# Altium footprint library CONN_TBLOCK_7P5.PcbLib: 27 footprints (part 1 of 2)
Each footprint in its own frame and in the unit in brackets; x right, y up, seen from the top. Pads: shape width x height; smd on the part's side, far side on the other; paste and mask are expansions set on the pad; w line width, h text height; cw(c..) or ccw(c..) is an arc to the next point about the centre after c.
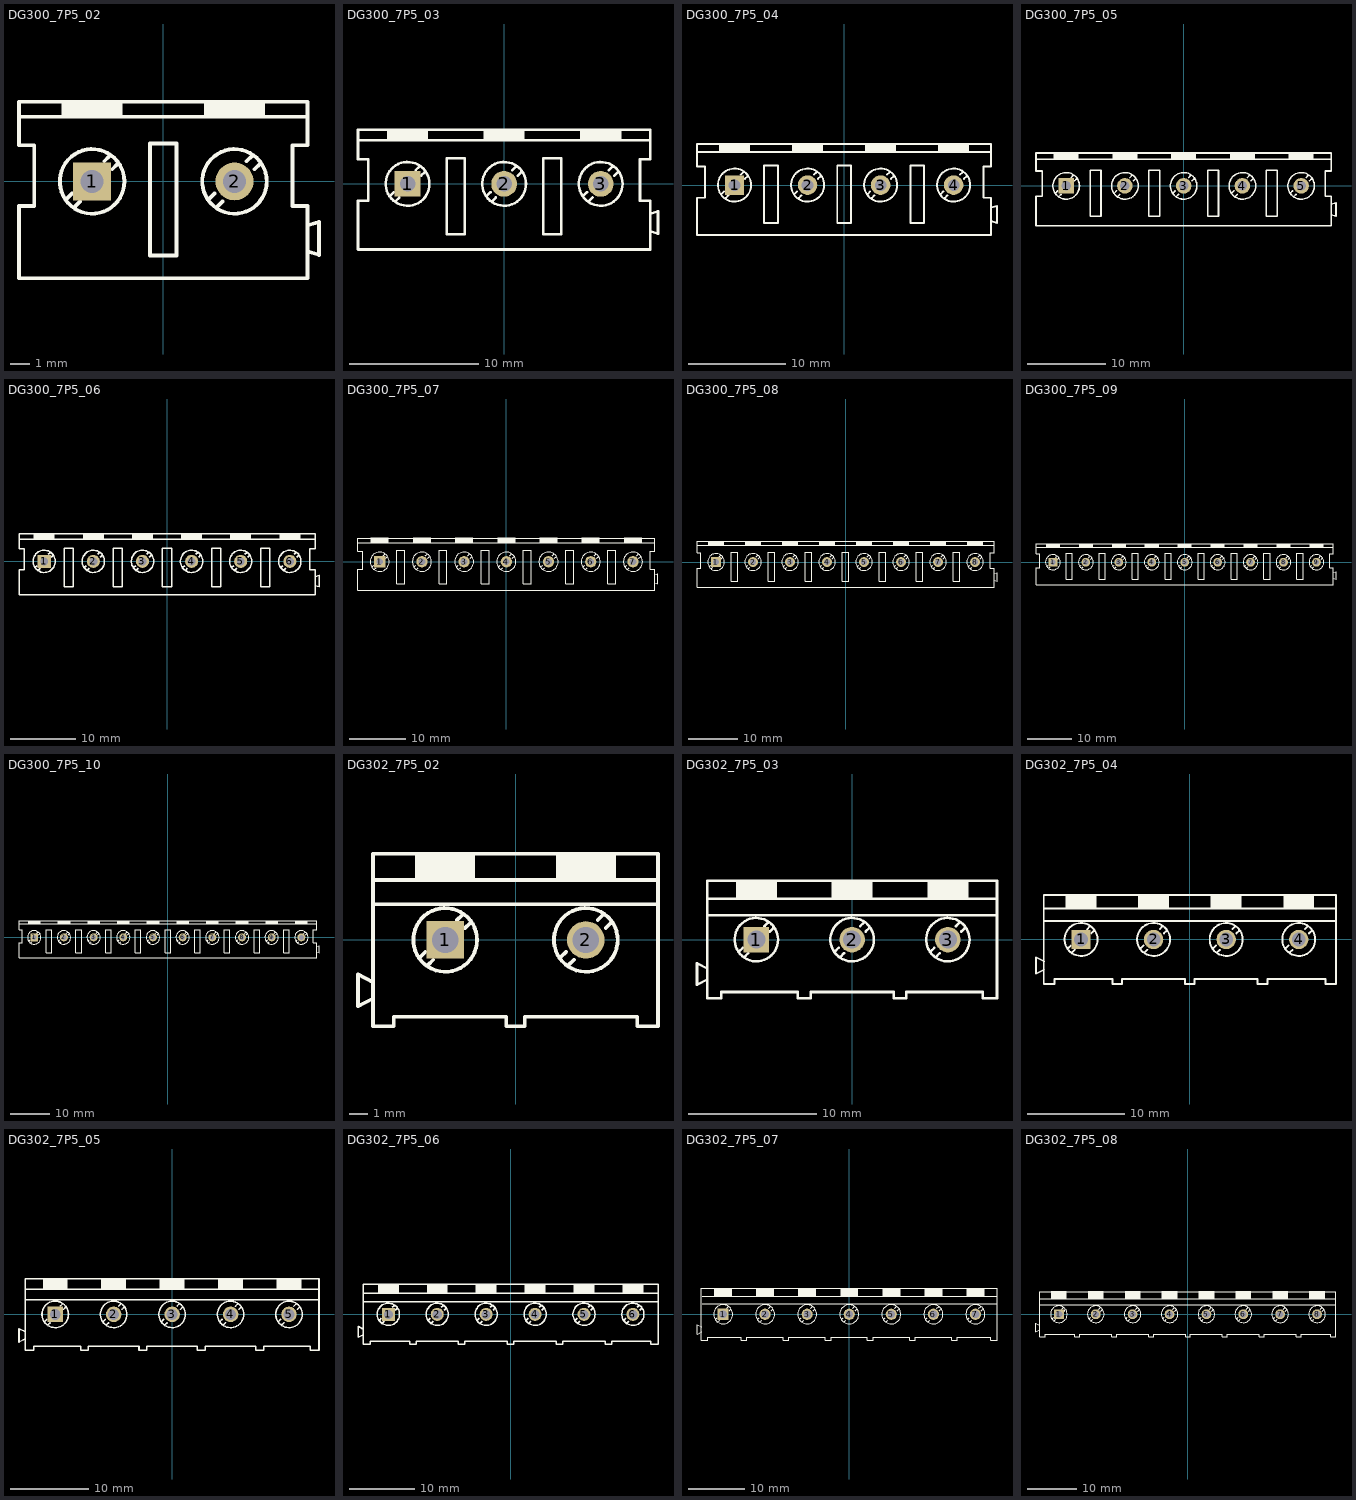
[diagram p0: the footprints below, top view; thin cyan lines are the x and y axes]

## DG300_7P5_02 [mm] "Terminal B screw, Pitch 7.5mm, H 12.6mm"
height 12.6
pads (2):
  rect 2x2 / inner rect 2x2 / far side rect 2.4x3 hole 1.2: 1(-3.75,0)
  round 2 / inner round 2 / far side oval 2.4x3 hole 1.2: 2(3.75,0)
Top Overlay:
  circle w0.2: c3.75,0 r1.7
  circle w0.2: c-3.75,0 r1.7
  region: -2.15,4.3 -5.35,4.3 -5.35,3.3 -2.15,3.3
  region: 5.35,4.3 2.15,4.3 2.15,3.3 5.35,3.3
  lines w0.2: -7.5,3.4 7.6,3.4 ; -5.094,-0.919 -4.811,-0.636 ; -4.669,-1.344 -4.386,-1.061 ; -3.114,1.061 -2.831,1.343 ; -2.689,0.636 -2.407,0.919 ; 2.406,-0.919 2.689,-0.636 ; 2.831,-1.344 3.114,-1.061 ; 4.386,1.061 4.669,1.343 ; 4.811,0.636 5.093,0.919 ; 7.603,-3.69 8.2,-3.871 8.2,-2.136 7.603,-2.317 ; -7.6,-5.1 -7.6,-1.3 -6.8,-1.3 -6.8,1.9 -7.6,1.9 -7.6,4.2 7.6,4.2 7.6,1.9 6.8,1.9 6.8,-1.3 7.6,-1.3 7.6,-5.1 -7.6,-5.1 ; -0.7,-3.9 0.7,-3.9 0.7,2 -0.7,2 -0.7,-3.9
3D body "DG300-7.5-02P.stp": height 12.6, standoff -4.4, extent -7.471,-4.98 8.129,4.12

## DG300_7P5_03 [mm] "Terminal B screw, Pitch 7.5mm, H 12.6mm"
height 12.6
pads (3):
  rect 2x2 / inner rect 2x2 / far side rect 2.4x3 hole 1.2: 1(-7.5,0)
  round 2 / inner round 2 / far side oval 2.4x3 hole 1.2: 2(0,0) 3(7.5,0)
Top Overlay:
  circle w0.2: c-7.5,0 r1.7
  circle w0.2: c0,0 r1.7
  circle w0.2: c7.5,0 r1.7
  region: -5.9,4.3 -9.1,4.3 -9.1,3.3 -5.9,3.3
  region: 9.1,4.3 5.9,4.3 5.9,3.3 9.1,3.3
  region: 1.6,4.3 -1.6,4.3 -1.6,3.3 1.6,3.3
  lines w0.2: -11.35,3.4 11.35,3.4 ; -8.844,-0.919 -8.561,-0.636 ; -8.419,-1.344 -8.136,-1.061 ; -6.864,1.061 -6.581,1.343 ; -6.439,0.636 -6.157,0.919 ; -1.344,-0.919 -1.061,-0.636 ; -0.919,-1.344 -0.636,-1.061 ; 0.636,1.061 0.919,1.343 ; 1.061,0.636 1.343,0.919 ; 6.156,-0.919 6.439,-0.636 ; 6.581,-1.344 6.864,-1.061 ; 8.136,1.061 8.419,1.343 ; 8.561,0.636 8.843,0.919 ; 11.353,-3.69 11.95,-3.871 11.95,-2.136 11.353,-2.317 ; -11.35,-5.1 11.35,-5.1 11.35,-1.3 10.55,-1.3 10.55,1.9 11.35,1.9 11.35,4.2 -11.35,4.2 -11.35,1.9 -10.55,1.9 -10.55,-1.3 -11.35,-1.3 -11.35,-5.1 ; -4.45,-3.9 -4.45,2 -3.05,2 -3.05,-3.9 -4.45,-3.9 ; 3.05,-3.9 3.05,2 4.45,2 4.45,-3.9 3.05,-3.9
3D body "DG300-7.5-03P.stp": height 12.6, standoff -4.4, extent -11.251,-5.011 11.849,4.089

## DG300_7P5_04 [mm] "Terminal B screw, Pitch 7.5mm, H 12.6mm"
height 12.6
pads (4):
  rect 2x2 / inner rect 2x2 / far side rect 2.4x3 hole 1.2: 1(-11.25,0)
  round 2 / inner round 2 / far side oval 2.4x3 hole 1.2: 2(-3.75,0) 3(3.75,0) 4(11.25,0)
Top Overlay:
  circle w0.2: c11.25,0 r1.7
  circle w0.2: c3.75,0 r1.7
  circle w0.2: c-3.75,0 r1.7
  circle w0.2: c-11.25,0 r1.7
  region: 12.85,4.3 9.65,4.3 9.65,3.3 12.85,3.3
  region: 5.35,4.3 2.15,4.3 2.15,3.3 5.35,3.3
  region: -2.15,4.3 -5.35,4.3 -5.35,3.3 -2.15,3.3
  region: -9.65,4.3 -12.85,4.3 -12.85,3.3 -9.65,3.3
  lines w0.2: -15.1,3.4 15.1,3.4 ; -12.594,-0.919 -12.311,-0.636 ; -12.169,-1.344 -11.886,-1.061 ; -10.614,1.061 -10.331,1.343 ; -10.189,0.636 -9.907,0.919 ; -5.094,-0.919 -4.811,-0.636 ; -4.669,-1.344 -4.386,-1.061 ; -3.114,1.061 -2.831,1.343 ; -2.689,0.636 -2.407,0.919 ; 2.406,-0.919 2.689,-0.636 ; 2.831,-1.344 3.114,-1.061 ; 4.386,1.061 4.669,1.343 ; 4.811,0.636 5.093,0.919 ; 9.906,-0.919 10.189,-0.636 ; 10.331,-1.344 10.614,-1.061 ; 11.886,1.061 12.169,1.343 ; 12.311,0.636 12.593,0.919 ; 15.103,-3.69 15.7,-3.871 15.7,-2.136 15.103,-2.317 ; -15.1,-5.1 -15.1,-1.3 -14.3,-1.3 -14.3,1.9 -15.1,1.9 -15.1,4.2 15.1,4.2 15.1,1.9 14.3,1.9 14.3,-1.3 15.1,-1.3 15.1,-5.1 -15.1,-5.1 ; -8.2,-3.9 -8.2,2 -6.8,2 -6.8,-3.9 -8.2,-3.9 ; -0.7,-3.9 -0.7,2 0.7,2 0.7,-3.9 -0.7,-3.9 ; 6.8,-3.9 6.8,2 8.2,2 8.2,-3.9 6.8,-3.9
3D body "DG300-7.5-04P.stp": height 12.6, standoff -4.4, extent -14.971,-4.98 15.629,4.12

## DG300_7P5_05 [mm] "Terminal B screw, Pitch 7.5mm, H 12.6mm"
height 12.6
pads (5):
  rect 2x2 / inner rect 2x2 / far side rect 2.4x3 hole 1.2: 1(-15,0)
  round 2 / inner round 2 / far side oval 2.4x3 hole 1.2: 2(-7.5,0) 3(0,0) 4(7.5,0) 5(15,0)
Top Overlay:
  circle w0.2: c-15,0 r1.7
  circle w0.2: c-7.5,0 r1.7
  circle w0.2: c0,0 r1.7
  circle w0.2: c7.5,0 r1.7
  circle w0.2: c15,0 r1.7
  region: -13.4,4.3 -16.6,4.3 -16.6,3.3 -13.4,3.3
  region: -5.9,4.3 -9.1,4.3 -9.1,3.3 -5.9,3.3
  region: 1.6,4.3 -1.6,4.3 -1.6,3.3 1.6,3.3
  region: 9.1,4.3 5.9,4.3 5.9,3.3 9.1,3.3
  region: 16.6,4.3 13.4,4.3 13.4,3.3 16.6,3.3
  lines w0.2: -18.85,3.4 18.85,3.4 ; -16.344,-0.919 -16.061,-0.636 ; -15.919,-1.344 -15.636,-1.061 ; -14.364,1.061 -14.081,1.343 ; -13.939,0.636 -13.657,0.919 ; -8.844,-0.919 -8.561,-0.636 ; -8.419,-1.344 -8.136,-1.061 ; -6.864,1.061 -6.581,1.343 ; -6.439,0.636 -6.157,0.919 ; -1.344,-0.919 -1.061,-0.636 ; -0.919,-1.344 -0.636,-1.061 ; 0.636,1.061 0.919,1.343 ; 1.061,0.636 1.343,0.919 ; 6.156,-0.919 6.439,-0.636 ; 6.581,-1.344 6.864,-1.061 ; 8.136,1.061 8.419,1.343 ; 8.561,0.636 8.843,0.919 ; 13.656,-0.919 13.939,-0.636 ; 14.081,-1.344 14.364,-1.061 ; 15.636,1.061 15.919,1.343 ; 16.061,0.636 16.343,0.919 ; 18.853,-3.69 19.45,-3.871 19.45,-2.136 18.853,-2.317 ; -18.85,-5.1 18.85,-5.1 18.85,-1.3 18.05,-1.3 18.05,1.9 18.85,1.9 18.85,4.2 -18.85,4.2 -18.85,1.9 -18.05,1.9 -18.05,-1.3 -18.85,-1.3 -18.85,-5.1 ; -11.95,-3.9 -10.55,-3.9 -10.55,2 -11.95,2 -11.95,-3.9 ; -4.45,-3.9 -3.05,-3.9 -3.05,2 -4.45,2 -4.45,-3.9 ; 3.05,-3.9 4.45,-3.9 4.45,2 3.05,2 3.05,-3.9 ; 10.55,-3.9 11.95,-3.9 11.95,2 10.55,2 10.55,-3.9
3D body "DG300-7.5-03P.stp": height 12.6, standoff -4.4, extent -18.751,-5.011 4.349,4.089
3D body "DG300-7.5-02P.stp": height 12.6, standoff -4.4, extent 3.779,-4.98 19.379,4.12

## DG300_7P5_06 [mm] "Terminal B screw, Pitch 7.5mm, H 12.6mm"
height 12.6
pads (6):
  rect 2x2 / inner rect 2x2 / far side rect 2.4x3 hole 1.2: 1(-18.75,0)
  round 2 / inner round 2 / far side oval 2.4x3 hole 1.2: 2(-11.25,0) 3(-3.75,0) 4(3.75,0) 5(11.25,0) 6(18.75,0)
Top Overlay:
  circle w0.2: c18.75,0 r1.7
  circle w0.2: c11.25,0 r1.7
  circle w0.2: c3.75,0 r1.7
  circle w0.2: c-3.75,0 r1.7
  circle w0.2: c-11.25,0 r1.7
  circle w0.2: c-18.75,0 r1.7
  region: 20.35,4.3 17.15,4.3 17.15,3.3 20.35,3.3
  region: 12.85,4.3 9.65,4.3 9.65,3.3 12.85,3.3
  region: 5.35,4.3 2.15,4.3 2.15,3.3 5.35,3.3
  region: -2.15,4.3 -5.35,4.3 -5.35,3.3 -2.15,3.3
  region: -9.65,4.3 -12.85,4.3 -12.85,3.3 -9.65,3.3
  region: -17.15,4.3 -20.35,4.3 -20.35,3.3 -17.15,3.3
  lines w0.2: -22.6,3.4 22.6,3.4 ; -20.094,-0.919 -19.811,-0.636 ; -19.669,-1.344 -19.386,-1.061 ; -18.114,1.061 -17.831,1.343 ; -17.689,0.636 -17.407,0.919 ; -12.594,-0.919 -12.311,-0.636 ; -12.169,-1.344 -11.886,-1.061 ; -10.614,1.061 -10.331,1.343 ; -10.189,0.636 -9.907,0.919 ; -5.094,-0.919 -4.811,-0.636 ; -4.669,-1.344 -4.386,-1.061 ; -3.114,1.061 -2.831,1.343 ; -2.689,0.636 -2.407,0.919 ; 2.406,-0.919 2.689,-0.636 ; 2.831,-1.344 3.114,-1.061 ; 4.386,1.061 4.669,1.343 ; 4.811,0.636 5.093,0.919 ; 9.906,-0.919 10.189,-0.636 ; 10.331,-1.344 10.614,-1.061 ; 11.886,1.061 12.169,1.343 ; 12.311,0.636 12.593,0.919 ; 17.406,-0.919 17.689,-0.636 ; 17.831,-1.344 18.114,-1.061 ; 19.386,1.061 19.669,1.343 ; 19.811,0.636 20.093,0.919 ; 22.603,-3.69 23.2,-3.871 23.2,-2.136 22.603,-2.317 ; -22.6,-5.1 -22.6,-1.3 -21.8,-1.3 -21.8,1.9 -22.6,1.9 -22.6,4.2 22.6,4.2 22.6,1.9 21.8,1.9 21.8,-1.3 22.6,-1.3 22.6,-5.1 -22.6,-5.1 ; -15.7,-3.9 -15.7,2 -14.3,2 -14.3,-3.9 -15.7,-3.9 ; -8.2,-3.9 -8.2,2 -6.8,2 -6.8,-3.9 -8.2,-3.9 ; -0.7,-3.9 -0.7,2 0.7,2 0.7,-3.9 -0.7,-3.9 ; 6.8,-3.9 6.8,2 8.2,2 8.2,-3.9 6.8,-3.9 ; 14.3,-3.9 14.3,2 15.7,2 15.7,-3.9 14.3,-3.9
3D body "DG300-7.5-03P.stp": height 12.6, standoff -4.4, extent -0.001,-5.011 23.099,4.089
3D body "DG300-7.5-03P.stp": height 12.6, standoff -4.4, extent -22.501,-5.011 0.599,4.089

## DG300_7P5_07 [mm] "Terminal B screw, Pitch 7.5mm, H 12.6mm"
height 12.6
pads (7):
  rect 2x2 / inner rect 2x2 / far side rect 2.4x3 hole 1.2: 1(-22.5,0)
  round 2 / inner round 2 / far side oval 2.4x3 hole 1.2: 2(-15,0) 3(-7.5,0) 4(0,0) 5(7.5,0) 6(15,0) 7(22.5,0)
Top Overlay:
  circle w0.2: c22.5,0 r1.7
  circle w0.2: c15,0 r1.7
  circle w0.2: c7.5,0 r1.7
  circle w0.2: c0,0 r1.7
  circle w0.2: c-7.5,0 r1.7
  circle w0.2: c-15,0 r1.7
  circle w0.2: c-22.5,0 r1.7
  region: 24.1,4.3 20.9,4.3 20.9,3.3 24.1,3.3
  region: 16.6,4.3 13.4,4.3 13.4,3.3 16.6,3.3
  region: 9.1,4.3 5.9,4.3 5.9,3.3 9.1,3.3
  region: 1.6,4.3 -1.6,4.3 -1.6,3.3 1.6,3.3
  region: -5.9,4.3 -9.1,4.3 -9.1,3.3 -5.9,3.3
  region: -13.4,4.3 -16.6,4.3 -16.6,3.3 -13.4,3.3
  region: -20.9,4.3 -24.1,4.3 -24.1,3.3 -20.9,3.3
  lines w0.2: -26.35,3.4 26.35,3.4 ; -23.844,-0.919 -23.561,-0.636 ; -23.419,-1.344 -23.136,-1.061 ; -21.864,1.061 -21.581,1.343 ; -21.439,0.636 -21.157,0.919 ; -16.344,-0.919 -16.061,-0.636 ; -15.919,-1.344 -15.636,-1.061 ; -14.364,1.061 -14.081,1.343 ; -13.939,0.636 -13.657,0.919 ; -8.844,-0.919 -8.561,-0.636 ; -8.419,-1.344 -8.136,-1.061 ; -6.864,1.061 -6.581,1.343 ; -6.439,0.636 -6.157,0.919 ; -1.344,-0.919 -1.061,-0.636 ; -0.919,-1.344 -0.636,-1.061 ; 0.636,1.061 0.919,1.343 ; 1.061,0.636 1.343,0.919 ; 6.156,-0.919 6.439,-0.636 ; 6.581,-1.344 6.864,-1.061 ; 8.136,1.061 8.419,1.343 ; 8.561,0.636 8.843,0.919 ; 13.656,-0.919 13.939,-0.636 ; 14.081,-1.344 14.364,-1.061 ; 15.636,1.061 15.919,1.343 ; 16.061,0.636 16.343,0.919 ; 21.156,-0.919 21.439,-0.636 ; 21.581,-1.344 21.864,-1.061 ; 23.136,1.061 23.419,1.343 ; 23.561,0.636 23.843,0.919 ; 26.353,-3.69 26.95,-3.871 26.95,-2.136 26.353,-2.317 ; -26.35,-5.1 -26.35,-1.3 -25.55,-1.3 -25.55,1.9 -26.35,1.9 -26.35,4.2 26.35,4.2 26.35,1.9 25.55,1.9 25.55,-1.3 26.35,-1.3 26.35,-5.1 -26.35,-5.1 ; -19.45,-3.9 -19.45,2 -18.05,2 -18.05,-3.9 -19.45,-3.9 ; -11.95,-3.9 -11.95,2 -10.55,2 -10.55,-3.9 -11.95,-3.9 ; -4.45,-3.9 -4.45,2 -3.05,2 -3.05,-3.9 -4.45,-3.9 ; 3.05,-3.9 3.05,2 4.45,2 4.45,-3.9 3.05,-3.9 ; 10.55,-3.9 10.55,2 11.95,2 11.95,-3.9 10.55,-3.9 ; 18.05,-3.9 18.05,2 19.45,2 19.45,-3.9 18.05,-3.9
3D body "DG300-7.5-04P.stp": height 12.6, standoff -4.4, extent -3.721,-4.98 26.879,4.12
3D body "DG300-7.5-03P.stp": height 12.6, standoff -4.4, extent -26.251,-5.011 -3.151,4.089

## DG300_7P5_08 [mm] "Terminal B screw, Pitch 7.5mm, H 12.6mm"
height 12.6
pads (8):
  rect 2x2 / inner rect 2x2 / far side rect 2.4x3 hole 1.2: 1(-26.25,0)
  round 2 / inner round 2 / far side oval 2.4x3 hole 1.2: 2(-18.75,0) 3(-11.25,0) 4(-3.75,0) 5(3.75,0) 6(11.25,0) 7(18.75,0) 8(26.25,0)
Top Overlay:
  circle w0.2: c26.25,0 r1.7
  circle w0.2: c18.75,0 r1.7
  circle w0.2: c11.25,0 r1.7
  circle w0.2: c3.75,0 r1.7
  circle w0.2: c-3.75,0 r1.7
  circle w0.2: c-11.25,0 r1.7
  circle w0.2: c-18.75,0 r1.7
  circle w0.2: c-26.25,0 r1.7
  region: 27.85,4.3 24.65,4.3 24.65,3.3 27.85,3.3
  region: 20.35,4.3 17.15,4.3 17.15,3.3 20.35,3.3
  region: 12.85,4.3 9.65,4.3 9.65,3.3 12.85,3.3
  region: 5.35,4.3 2.15,4.3 2.15,3.3 5.35,3.3
  region: -2.15,4.3 -5.35,4.3 -5.35,3.3 -2.15,3.3
  region: -9.65,4.3 -12.85,4.3 -12.85,3.3 -9.65,3.3
  region: -17.15,4.3 -20.35,4.3 -20.35,3.3 -17.15,3.3
  region: -24.65,4.3 -27.85,4.3 -27.85,3.3 -24.65,3.3
  lines w0.2: -30.1,3.4 30.1,3.4 ; -27.594,-0.919 -27.311,-0.636 ; -27.169,-1.344 -26.886,-1.061 ; -25.614,1.061 -25.331,1.343 ; -25.189,0.636 -24.907,0.919 ; -20.094,-0.919 -19.811,-0.636 ; -19.669,-1.344 -19.386,-1.061 ; -18.114,1.061 -17.831,1.343 ; -17.689,0.636 -17.407,0.919 ; -12.594,-0.919 -12.311,-0.636 ; -12.169,-1.344 -11.886,-1.061 ; -10.614,1.061 -10.331,1.343 ; -10.189,0.636 -9.907,0.919 ; -5.094,-0.919 -4.811,-0.636 ; -4.669,-1.344 -4.386,-1.061 ; -3.114,1.061 -2.831,1.343 ; -2.689,0.636 -2.407,0.919 ; 2.406,-0.919 2.689,-0.636 ; 2.831,-1.344 3.114,-1.061 ; 4.386,1.061 4.669,1.343 ; 4.811,0.636 5.093,0.919 ; 9.906,-0.919 10.189,-0.636 ; 10.331,-1.344 10.614,-1.061 ; 11.886,1.061 12.169,1.343 ; 12.311,0.636 12.593,0.919 ; 17.406,-0.919 17.689,-0.636 ; 17.831,-1.344 18.114,-1.061 ; 19.386,1.061 19.669,1.343 ; 19.811,0.636 20.093,0.919 ; 24.906,-0.919 25.189,-0.636 ; 25.331,-1.344 25.614,-1.061 ; 26.886,1.061 27.169,1.343 ; 27.311,0.636 27.593,0.919 ; 30.103,-3.69 30.7,-3.871 30.7,-2.136 30.103,-2.317 ; -30.1,-5.1 -30.1,-1.3 -29.3,-1.3 -29.3,1.9 -30.1,1.9 -30.1,4.2 30.1,4.2 30.1,1.9 29.3,1.9 29.3,-1.3 30.1,-1.3 30.1,-5.1 -30.1,-5.1 ; -23.2,-3.9 -23.2,2 -21.8,2 -21.8,-3.9 -23.2,-3.9 ; -15.7,-3.9 -15.7,2 -14.3,2 -14.3,-3.9 -15.7,-3.9 ; -8.2,-3.9 -8.2,2 -6.8,2 -6.8,-3.9 -8.2,-3.9 ; -0.7,-3.9 -0.7,2 0.7,2 0.7,-3.9 -0.7,-3.9 ; 6.8,-3.9 6.8,2 8.2,2 8.2,-3.9 6.8,-3.9 ; 14.3,-3.9 14.3,2 15.7,2 15.7,-3.9 14.3,-3.9 ; 21.8,-3.9 21.8,2 23.2,2 23.2,-3.9 21.8,-3.9
3D body "DG300-7.5-04P.stp": height 12.6, standoff -4.4, extent 0.029,-4.98 30.629,4.12
3D body "DG300-7.5-04P.stp": height 12.6, standoff -4.4, extent -29.971,-4.98 0.629,4.12

## DG300_7P5_09 [mm] "Terminal B screw, Pitch 7.5mm, H 12.6mm"
height 12.6
pads (9):
  rect 2x2 / inner rect 2x2 / far side rect 2.4x3 hole 1.2: 1(-30,0)
  round 2 / inner round 2 / far side oval 2.4x3 hole 1.2: 2(-22.5,0) 3(-15,0) 4(-7.5,0) 5(0,0) 6(7.5,0) 7(15,0) 8(22.5,0) 9(30,0)
Top Overlay:
  circle w0.2: c30,0 r1.7
  circle w0.2: c22.5,0 r1.7
  circle w0.2: c15,0 r1.7
  circle w0.2: c7.5,0 r1.7
  circle w0.2: c0,0 r1.7
  circle w0.2: c-7.5,0 r1.7
  circle w0.2: c-15,0 r1.7
  circle w0.2: c-22.5,0 r1.7
  circle w0.2: c-30,0 r1.7
  region: 31.6,4.3 28.4,4.3 28.4,3.3 31.6,3.3
  region: 24.1,4.3 20.9,4.3 20.9,3.3 24.1,3.3
  region: 16.6,4.3 13.4,4.3 13.4,3.3 16.6,3.3
  region: 9.1,4.3 5.9,4.3 5.9,3.3 9.1,3.3
  region: 1.6,4.3 -1.6,4.3 -1.6,3.3 1.6,3.3
  region: -5.9,4.3 -9.1,4.3 -9.1,3.3 -5.9,3.3
  region: -13.4,4.3 -16.6,4.3 -16.6,3.3 -13.4,3.3
  region: -20.9,4.3 -24.1,4.3 -24.1,3.3 -20.9,3.3
  region: -28.4,4.3 -31.6,4.3 -31.6,3.3 -28.4,3.3
  lines w0.2: -33.85,3.4 33.85,3.4 ; -31.344,-0.919 -31.061,-0.636 ; -30.919,-1.344 -30.636,-1.061 ; -29.364,1.061 -29.081,1.343 ; -28.939,0.636 -28.657,0.919 ; -23.844,-0.919 -23.561,-0.636 ; -23.419,-1.344 -23.136,-1.061 ; -21.864,1.061 -21.581,1.343 ; -21.439,0.636 -21.157,0.919 ; -16.344,-0.919 -16.061,-0.636 ; -15.919,-1.344 -15.636,-1.061 ; -14.364,1.061 -14.081,1.343 ; -13.939,0.636 -13.657,0.919 ; -8.844,-0.919 -8.561,-0.636 ; -8.419,-1.344 -8.136,-1.061 ; -6.864,1.061 -6.581,1.343 ; -6.439,0.636 -6.157,0.919 ; -1.344,-0.919 -1.061,-0.636 ; -0.919,-1.344 -0.636,-1.061 ; 0.636,1.061 0.919,1.343 ; 1.061,0.636 1.343,0.919 ; 6.156,-0.919 6.439,-0.636 ; 6.581,-1.344 6.864,-1.061 ; 8.136,1.061 8.419,1.343 ; 8.561,0.636 8.843,0.919 ; 13.656,-0.919 13.939,-0.636 ; 14.081,-1.344 14.364,-1.061 ; 15.636,1.061 15.919,1.343 ; 16.061,0.636 16.343,0.919 ; 21.156,-0.919 21.439,-0.636 ; 21.581,-1.344 21.864,-1.061 ; 23.136,1.061 23.419,1.343 ; 23.561,0.636 23.843,0.919 ; 28.656,-0.919 28.939,-0.636 ; 29.081,-1.344 29.364,-1.061 ; 30.636,1.061 30.919,1.343 ; 31.061,0.636 31.343,0.919 ; 33.853,-3.69 34.45,-3.871 34.45,-2.136 33.853,-2.317 ; -33.85,-5.1 -33.85,-1.3 -33.05,-1.3 -33.05,1.9 -33.85,1.9 -33.85,4.2 33.85,4.2 33.85,1.9 33.05,1.9 33.05,-1.3 33.85,-1.3 33.85,-5.1 -33.85,-5.1 ; -26.95,-3.9 -26.95,2 -25.55,2 -25.55,-3.9 -26.95,-3.9 ; -19.45,-3.9 -19.45,2 -18.05,2 -18.05,-3.9 -19.45,-3.9 ; -11.95,-3.9 -11.95,2 -10.55,2 -10.55,-3.9 -11.95,-3.9 ; -4.45,-3.9 -4.45,2 -3.05,2 -3.05,-3.9 -4.45,-3.9 ; 3.05,-3.9 3.05,2 4.45,2 4.45,-3.9 3.05,-3.9 ; 10.55,-3.9 10.55,2 11.95,2 11.95,-3.9 10.55,-3.9 ; 18.05,-3.9 18.05,2 19.45,2 19.45,-3.9 18.05,-3.9 ; 25.55,-3.9 25.55,2 26.95,2 26.95,-3.9 25.55,-3.9
3D body "DG300-7.5-03P.stp": height 12.6, standoff -4.4, extent -3.751,-5.011 19.349,4.089
3D body "DG300-7.5-02P.stp": height 12.6, standoff -4.4, extent 18.779,-4.98 34.379,4.12
3D body "DG300-7.5-04P.stp": height 12.6, standoff -4.4, extent -33.721,-4.98 -3.121,4.12

## DG300_7P5_10 [mm] "Terminal B screw, Pitch 7.5mm, H 12.6mm"
height 12.6
pads (10):
  rect 2x2 / inner rect 2x2 / far side rect 2.4x3 hole 1.2: 1(-33.75,0)
  round 2 / inner round 2 / far side oval 2.4x3 hole 1.2: 2(-26.25,0) 3(-18.75,0) 4(-11.25,0) 5(-3.75,0) 6(3.75,0) 7(11.25,0) 8(18.75,0) 9(26.25,0) 10(33.75,0)
Top Overlay:
  circle w0.2: c-33.75,0 r1.7
  circle w0.2: c-26.25,0 r1.7
  circle w0.2: c-18.75,0 r1.7
  circle w0.2: c-11.25,0 r1.7
  circle w0.2: c-3.75,0 r1.7
  circle w0.2: c3.75,0 r1.7
  circle w0.2: c11.25,0 r1.7
  circle w0.2: c18.75,0 r1.7
  circle w0.2: c26.25,0 r1.7
  circle w0.2: c33.75,0 r1.7
  region: -32.15,4.3 -35.35,4.3 -35.35,3.3 -32.15,3.3
  region: -24.65,4.3 -27.85,4.3 -27.85,3.3 -24.65,3.3
  region: -17.15,4.3 -20.35,4.3 -20.35,3.3 -17.15,3.3
  region: -9.65,4.3 -12.85,4.3 -12.85,3.3 -9.65,3.3
  region: -2.15,4.3 -5.35,4.3 -5.35,3.3 -2.15,3.3
  region: 5.35,4.3 2.15,4.3 2.15,3.3 5.35,3.3
  region: 12.85,4.3 9.65,4.3 9.65,3.3 12.85,3.3
  region: 20.35,4.3 17.15,4.3 17.15,3.3 20.35,3.3
  region: 27.85,4.3 24.65,4.3 24.65,3.3 27.85,3.3
  region: 35.35,4.3 32.15,4.3 32.15,3.3 35.35,3.3
  lines w0.2: -37.6,3.4 37.6,3.4 ; -35.094,-0.919 -34.811,-0.636 ; -34.669,-1.344 -34.386,-1.061 ; -33.114,1.061 -32.831,1.343 ; -32.689,0.636 -32.407,0.919 ; -27.594,-0.919 -27.311,-0.636 ; -27.169,-1.344 -26.886,-1.061 ; -25.614,1.061 -25.331,1.343 ; -25.189,0.636 -24.907,0.919 ; -20.094,-0.919 -19.811,-0.636 ; -19.669,-1.344 -19.386,-1.061 ; -18.114,1.061 -17.831,1.343 ; -17.689,0.636 -17.407,0.919 ; -12.594,-0.919 -12.311,-0.636 ; -12.169,-1.344 -11.886,-1.061 ; -10.614,1.061 -10.331,1.343 ; -10.189,0.636 -9.907,0.919 ; -5.094,-0.919 -4.811,-0.636 ; -4.669,-1.344 -4.386,-1.061 ; -3.114,1.061 -2.831,1.343 ; -2.689,0.636 -2.407,0.919 ; 2.406,-0.919 2.689,-0.636 ; 2.831,-1.344 3.114,-1.061 ; 4.386,1.061 4.669,1.343 ; 4.811,0.636 5.093,0.919 ; 9.906,-0.919 10.189,-0.636 ; 10.331,-1.344 10.614,-1.061 ; 11.886,1.061 12.169,1.343 ; 12.311,0.636 12.593,0.919 ; 17.406,-0.919 17.689,-0.636 ; 17.831,-1.344 18.114,-1.061 ; 19.386,1.061 19.669,1.343 ; 19.811,0.636 20.093,0.919 ; 24.906,-0.919 25.189,-0.636 ; 25.331,-1.344 25.614,-1.061 ; 26.886,1.061 27.169,1.343 ; 27.311,0.636 27.593,0.919 ; 32.406,-0.919 32.689,-0.636 ; 32.831,-1.344 33.114,-1.061 ; 34.386,1.061 34.669,1.343 ; 34.811,0.636 35.093,0.919 ; 37.603,-3.69 38.2,-3.871 38.2,-2.136 37.603,-2.317 ; -37.6,-5.1 37.6,-5.1 37.6,-1.3 36.8,-1.3 36.8,1.9 37.6,1.9 37.6,4.2 -37.6,4.2 -37.6,1.9 -36.8,1.9 -36.8,-1.3 -37.6,-1.3 -37.6,-5.1 ; -30.7,-3.9 -29.3,-3.9 -29.3,2 -30.7,2 -30.7,-3.9 ; -23.2,-3.9 -21.8,-3.9 -21.8,2 -23.2,2 -23.2,-3.9 ; -15.7,-3.9 -14.3,-3.9 -14.3,2 -15.7,2 -15.7,-3.9 ; -8.2,-3.9 -6.8,-3.9 -6.8,2 -8.2,2 -8.2,-3.9 ; -0.7,-3.9 0.7,-3.9 0.7,2 -0.7,2 -0.7,-3.9 ; 6.8,-3.9 8.2,-3.9 8.2,2 6.8,2 6.8,-3.9 ; 14.3,-3.9 15.7,-3.9 15.7,2 14.3,2 14.3,-3.9 ; 21.8,-3.9 23.2,-3.9 23.2,2 21.8,2 21.8,-3.9 ; 29.3,-3.9 30.7,-3.9 30.7,2 29.3,2 29.3,-3.9
3D body "DG300-7.5-02P.stp": height 12.6, standoff -4.4, extent -14.971,-4.98 0.629,4.12
3D body "DG300-7.5-03P.stp": height 12.6, standoff -4.4, extent -37.501,-5.011 -14.401,4.089
3D body "DG300-7.5-02P.stp": height 12.6, standoff -4.4, extent 22.529,-4.98 38.129,4.12
3D body "DG300-7.5-03P.stp": height 12.6, standoff -4.4, extent -0.001,-5.011 23.099,4.089

## DG302_7P5_02 [mm] "Terminal B screw, Pitch 7.5mm, H 13.5mm"
height 13.5
pads (2):
  rect 2x2 / inner rect 2x2 / far side rect 2.4x3 hole 1.4: 1(-3.75,0)
  round 2 / inner round 2 / far side oval 2.4x3 hole 1.4: 2(3.75,0)
Top Overlay:
  circle w0.2: c-3.75,0 r1.7
  circle w0.2: c3.75,0 r1.7
  region: 5.35,4.7 2.15,4.7 2.15,3.2 5.35,3.2
  region: -2.15,4.7 -5.35,4.7 -5.35,3.2 -2.15,3.2
  lines w0.2: -7.587,-3.125 -8.4,-3.541 -8.4,-1.839 -7.587,-2.255 ; -7.5,1.9 7.6,1.9 ; -7.5,3.2 7.6,3.2 ; -5.094,-0.919 -4.811,-0.636 ; -4.669,-1.344 -4.386,-1.061 ; -3.114,1.061 -2.831,1.343 ; -2.689,0.636 -2.407,0.919 ; 2.406,-0.919 2.689,-0.636 ; 2.831,-1.344 3.114,-1.061 ; 4.386,1.061 4.669,1.343 ; 4.811,0.636 5.093,0.919 ; -7.6,-4.6 -6.5,-4.6 -6.5,-4.1 -0.5,-4.1 -0.5,-4.6 0.5,-4.6 0.5,-4.1 6.5,-4.1 6.5,-4.6 7.6,-4.6 7.6,4.6 -7.6,4.6 -7.6,-4.6
3D body "DG302-7.5-02P.stp": height 13.5, standoff -4.1, extent -8.335,-4.5 7.535,4.5

## DG302_7P5_03 [mm] "Terminal B screw, Pitch 7.5mm, H 13.5mm"
height 13.5
pads (3):
  rect 2x2 / inner rect 2x2 / far side rect 2.4x3 hole 1.4: 1(-7.5,0)
  round 2 / inner round 2 / far side oval 2.4x3 hole 1.4: 2(0,0) 3(7.5,0)
Top Overlay:
  circle w0.2: c0,0 r1.7
  circle w0.2: c-7.5,0 r1.7
  circle w0.2: c7.5,0 r1.7
  region: 1.6,4.7 -1.6,4.7 -1.6,3.2 1.6,3.2
  region: 9.1,4.7 5.9,4.7 5.9,3.2 9.1,3.2
  region: -5.9,4.7 -9.1,4.7 -9.1,3.2 -5.9,3.2
  lines w0.2: -11.337,-3.125 -12.15,-3.541 -12.15,-1.839 -11.337,-2.255 ; -11.25,1.9 11.35,1.9 ; -11.25,3.2 11.35,3.2 ; -8.844,-0.919 -8.561,-0.636 ; -8.419,-1.344 -8.136,-1.061 ; -6.864,1.061 -6.581,1.343 ; -6.439,0.636 -6.157,0.919 ; -1.344,-0.919 -1.061,-0.636 ; -0.919,-1.344 -0.636,-1.061 ; 0.636,1.061 0.919,1.343 ; 1.061,0.636 1.343,0.919 ; 6.156,-0.919 6.439,-0.636 ; 6.581,-1.344 6.864,-1.061 ; 8.136,1.061 8.419,1.343 ; 8.561,0.636 8.843,0.919 ; -11.35,-4.6 -10.25,-4.6 -10.25,-4.1 -4.25,-4.1 -4.25,-4.6 -3.25,-4.6 -3.25,-4.1 3.25,-4.1 3.25,-4.6 4.25,-4.6 4.25,-4.1 10.25,-4.1 10.25,-4.6 11.35,-4.6 11.35,4.6 -11.35,4.6 -11.35,-4.6
3D body "DG302-7.5-03P.stp": height 13.5, standoff -4.1, extent -12.085,-4.5 11.285,4.5

## DG302_7P5_04 [mm] "Terminal B screw, Pitch 7.5mm, H 13.5mm"
height 13.5
pads (4):
  rect 2x2 / inner rect 2x2 / far side rect 2.4x3 hole 1.4: 1(-11.25,0)
  round 2 / inner round 2 / far side oval 2.4x3 hole 1.4: 2(-3.75,0) 3(3.75,0) 4(11.25,0)
Top Overlay:
  circle w0.2: c-11.25,0 r1.7
  circle w0.2: c-3.75,0 r1.7
  circle w0.2: c3.75,0 r1.7
  circle w0.2: c11.25,0 r1.7
  region: -9.65,4.7 -12.85,4.7 -12.85,3.2 -9.65,3.2
  region: -2.15,4.7 -5.35,4.7 -5.35,3.2 -2.15,3.2
  region: 5.35,4.7 2.15,4.7 2.15,3.2 5.35,3.2
  region: 12.85,4.7 9.65,4.7 9.65,3.2 12.85,3.2
  lines w0.2: -15.087,-3.125 -15.9,-3.541 -15.9,-1.839 -15.087,-2.255 ; -15,1.9 15.1,1.9 ; -15,3.2 15.1,3.2 ; -12.594,-0.919 -12.311,-0.636 ; -12.169,-1.344 -11.886,-1.061 ; -10.614,1.061 -10.331,1.343 ; -10.189,0.636 -9.907,0.919 ; -5.094,-0.919 -4.811,-0.636 ; -4.669,-1.344 -4.386,-1.061 ; -3.114,1.061 -2.831,1.343 ; -2.689,0.636 -2.407,0.919 ; 2.406,-0.919 2.689,-0.636 ; 2.831,-1.344 3.114,-1.061 ; 4.386,1.061 4.669,1.343 ; 4.811,0.636 5.093,0.919 ; 9.906,-0.919 10.189,-0.636 ; 10.331,-1.344 10.614,-1.061 ; 11.886,1.061 12.169,1.343 ; 12.311,0.636 12.593,0.919 ; -15.1,-4.6 -14,-4.6 -14,-4.1 -8,-4.1 -8,-4.6 -7,-4.6 -7,-4.1 -0.5,-4.1 -0.5,-4.6 0.5,-4.6 0.5,-4.1 7,-4.1 7,-4.6 8,-4.6 8,-4.1 14,-4.1 14,-4.6 15.1,-4.6 15.1,4.6 -15.1,4.6 -15.1,-4.6
3D body "DG302-7.5-02P.stp": height 13.5, standoff -4.1, extent -15.835,-4.5 0.035,4.5
3D body "DG302-7.5-02P.stp": height 13.5, standoff -4.1, extent -0.835,-4.5 15.035,4.5

## DG302_7P5_05 [mm] "Terminal B screw, Pitch 7.5mm, H 13.5mm"
height 13.5
pads (5):
  rect 2x2 / inner rect 2x2 / far side rect 2.4x3 hole 1.4: 1(-15,0)
  round 2 / inner round 2 / far side oval 2.4x3 hole 1.4: 2(-7.5,0) 3(0,0) 4(7.5,0) 5(15,0)
Top Overlay:
  circle w0.2: c15,0 r1.7
  circle w0.2: c7.5,0 r1.7
  circle w0.2: c0,0 r1.7
  circle w0.2: c-7.5,0 r1.7
  circle w0.2: c-15,0 r1.7
  region: 16.6,4.7 13.4,4.7 13.4,3.2 16.6,3.2
  region: 9.1,4.7 5.9,4.7 5.9,3.2 9.1,3.2
  region: 1.6,4.7 -1.6,4.7 -1.6,3.2 1.6,3.2
  region: -5.9,4.7 -9.1,4.7 -9.1,3.2 -5.9,3.2
  region: -13.4,4.7 -16.6,4.7 -16.6,3.2 -13.4,3.2
  lines w0.2: -18.837,-3.125 -19.65,-3.541 -19.65,-1.839 -18.837,-2.255 ; -18.75,1.9 18.85,1.9 ; -18.75,3.2 18.85,3.2 ; -16.344,-0.919 -16.061,-0.636 ; -15.919,-1.344 -15.636,-1.061 ; -14.364,1.061 -14.081,1.343 ; -13.939,0.636 -13.657,0.919 ; -8.844,-0.919 -8.561,-0.636 ; -8.419,-1.344 -8.136,-1.061 ; -6.864,1.061 -6.581,1.343 ; -6.439,0.636 -6.157,0.919 ; -1.344,-0.919 -1.061,-0.636 ; -0.919,-1.344 -0.636,-1.061 ; 0.636,1.061 0.919,1.343 ; 1.061,0.636 1.343,0.919 ; 6.156,-0.919 6.439,-0.636 ; 6.581,-1.344 6.864,-1.061 ; 8.136,1.061 8.419,1.343 ; 8.561,0.636 8.843,0.919 ; 13.656,-0.919 13.939,-0.636 ; 14.081,-1.344 14.364,-1.061 ; 15.636,1.061 15.919,1.343 ; 16.061,0.636 16.343,0.919 ; -18.85,-4.6 -18.85,4.6 18.85,4.6 18.85,-4.6 17.75,-4.6 17.75,-4.1 11.75,-4.1 11.75,-4.6 10.75,-4.6 10.75,-4.1 4.25,-4.1 4.25,-4.6 3.25,-4.6 3.25,-4.1 -3.25,-4.1 -3.25,-4.6 -4.25,-4.6 -4.25,-4.1 -10.75,-4.1 -10.75,-4.6 -11.75,-4.6 -11.75,-4.1 -17.75,-4.1 -17.75,-4.6 -18.85,-4.6
3D body "DG302-7.5-03P.stp": height 13.5, standoff -4.1, extent -4.585,-4.5 18.785,4.5
3D body "DG302-7.5-02P.stp": height 13.5, standoff -4.1, extent -19.585,-4.5 -3.715,4.5

## DG302_7P5_06 [mm] "Terminal B screw, Pitch 7.5mm, H 13.5mm"
height 13.5
pads (6):
  rect 2x2 / inner rect 2x2 / far side rect 2.4x3 hole 1.4: 1(-18.75,0)
  round 2 / inner round 2 / far side oval 2.4x3 hole 1.4: 2(-11.25,0) 3(-3.75,0) 4(3.75,0) 5(11.25,0) 6(18.75,0)
Top Overlay:
  circle w0.2: c-18.75,0 r1.7
  circle w0.2: c-11.25,0 r1.7
  circle w0.2: c-3.75,0 r1.7
  circle w0.2: c3.75,0 r1.7
  circle w0.2: c11.25,0 r1.7
  circle w0.2: c18.75,0 r1.7
  region: -17.15,4.7 -20.35,4.7 -20.35,3.2 -17.15,3.2
  region: -9.65,4.7 -12.85,4.7 -12.85,3.2 -9.65,3.2
  region: -2.15,4.7 -5.35,4.7 -5.35,3.2 -2.15,3.2
  region: 5.35,4.7 2.15,4.7 2.15,3.2 5.35,3.2
  region: 12.85,4.7 9.65,4.7 9.65,3.2 12.85,3.2
  region: 20.35,4.7 17.15,4.7 17.15,3.2 20.35,3.2
  lines w0.2: -22.587,-3.125 -23.4,-3.541 -23.4,-1.839 -22.587,-2.255 ; -22.5,1.9 22.6,1.9 ; -22.5,3.2 22.6,3.2 ; -20.094,-0.919 -19.811,-0.636 ; -19.669,-1.344 -19.386,-1.061 ; -18.114,1.061 -17.831,1.343 ; -17.689,0.636 -17.407,0.919 ; -12.594,-0.919 -12.311,-0.636 ; -12.169,-1.344 -11.886,-1.061 ; -10.614,1.061 -10.331,1.343 ; -10.189,0.636 -9.907,0.919 ; -5.094,-0.919 -4.811,-0.636 ; -4.669,-1.344 -4.386,-1.061 ; -3.114,1.061 -2.831,1.343 ; -2.689,0.636 -2.407,0.919 ; 2.406,-0.919 2.689,-0.636 ; 2.831,-1.344 3.114,-1.061 ; 4.386,1.061 4.669,1.343 ; 4.811,0.636 5.093,0.919 ; 9.906,-0.919 10.189,-0.636 ; 10.331,-1.344 10.614,-1.061 ; 11.886,1.061 12.169,1.343 ; 12.311,0.636 12.593,0.919 ; 17.406,-0.919 17.689,-0.636 ; 17.831,-1.344 18.114,-1.061 ; 19.386,1.061 19.669,1.343 ; 19.811,0.636 20.093,0.919 ; -22.6,-4.6 -21.5,-4.6 -21.5,-4.1 -15.5,-4.1 -15.5,-4.6 -14.5,-4.6 -14.5,-4.1 -8,-4.1 -8,-4.6 -7,-4.6 -7,-4.1 -0.5,-4.1 -0.5,-4.6 0.5,-4.6 0.5,-4.1 7,-4.1 7,-4.6 8,-4.6 8,-4.1 14.5,-4.1 14.5,-4.6 15.5,-4.6 15.5,-4.1 21.5,-4.1 21.5,-4.6 22.6,-4.6 22.6,4.6 -22.6,4.6 -22.6,-4.6
3D body "DG302-7.5-03P.stp": height 13.5, standoff -4.1, extent -0.835,-4.5 22.535,4.5
3D body "DG302-7.5-03P.stp": height 13.5, standoff -4.1, extent -23.335,-4.5 0.035,4.5

## DG302_7P5_07 [mm] "Terminal B screw, Pitch 7.5mm, H 13.5mm"
height 13.5
pads (7):
  rect 2x2 / inner rect 2x2 / far side rect 2.4x3 hole 1.4: 1(-22.5,0)
  round 2 / inner round 2 / far side oval 2.4x3 hole 1.4: 2(-15,0) 3(-7.5,0) 4(0,0) 5(7.5,0) 6(15,0) 7(22.5,0)
Top Overlay:
  circle w0.2: c-22.5,0 r1.7
  circle w0.2: c-15,0 r1.7
  circle w0.2: c-7.5,0 r1.7
  circle w0.2: c0,0 r1.7
  circle w0.2: c7.5,0 r1.7
  circle w0.2: c15,0 r1.7
  circle w0.2: c22.5,0 r1.7
  region: -20.9,4.7 -24.1,4.7 -24.1,3.2 -20.9,3.2
  region: -13.4,4.7 -16.6,4.7 -16.6,3.2 -13.4,3.2
  region: -5.9,4.7 -9.1,4.7 -9.1,3.2 -5.9,3.2
  region: 1.6,4.7 -1.6,4.7 -1.6,3.2 1.6,3.2
  region: 9.1,4.7 5.9,4.7 5.9,3.2 9.1,3.2
  region: 16.6,4.7 13.4,4.7 13.4,3.2 16.6,3.2
  region: 24.1,4.7 20.9,4.7 20.9,3.2 24.1,3.2
  lines w0.2: -26.337,-3.125 -27.15,-3.541 -27.15,-1.839 -26.337,-2.255 ; -26.25,1.9 26.35,1.9 ; -26.25,3.2 26.35,3.2 ; -23.844,-0.919 -23.561,-0.636 ; -23.419,-1.344 -23.136,-1.061 ; -21.864,1.061 -21.581,1.343 ; -21.439,0.636 -21.157,0.919 ; -16.344,-0.919 -16.061,-0.636 ; -15.919,-1.344 -15.636,-1.061 ; -14.364,1.061 -14.081,1.343 ; -13.939,0.636 -13.657,0.919 ; -8.844,-0.919 -8.561,-0.636 ; -8.419,-1.344 -8.136,-1.061 ; -6.864,1.061 -6.581,1.343 ; -6.439,0.636 -6.157,0.919 ; -1.344,-0.919 -1.061,-0.636 ; -0.919,-1.344 -0.636,-1.061 ; 0.636,1.061 0.919,1.343 ; 1.061,0.636 1.343,0.919 ; 6.156,-0.919 6.439,-0.636 ; 6.581,-1.344 6.864,-1.061 ; 8.136,1.061 8.419,1.343 ; 8.561,0.636 8.843,0.919 ; 13.656,-0.919 13.939,-0.636 ; 14.081,-1.344 14.364,-1.061 ; 15.636,1.061 15.919,1.343 ; 16.061,0.636 16.343,0.919 ; 21.156,-0.919 21.439,-0.636 ; 21.581,-1.344 21.864,-1.061 ; 23.136,1.061 23.419,1.343 ; 23.561,0.636 23.843,0.919 ; -26.35,-4.6 -25.25,-4.6 -25.25,-4.1 -19.25,-4.1 -19.25,-4.6 -18.25,-4.6 -18.25,-4.1 -11.75,-4.1 -11.75,-4.6 -10.75,-4.6 -10.75,-4.1 -4.25,-4.1 -4.25,-4.6 -3.25,-4.6 -3.25,-4.1 3.25,-4.1 3.25,-4.6 4.25,-4.6 4.25,-4.1 10.75,-4.1 10.75,-4.6 11.75,-4.6 11.75,-4.1 18.25,-4.1 18.25,-4.6 19.25,-4.6 19.25,-4.1 25.25,-4.1 25.25,-4.6 26.35,-4.6 26.35,4.6 -26.35,4.6 -26.35,-4.6
3D body "DG302-7.5-03P.stp": height 13.5, standoff -4.1, extent 2.915,-4.5 26.285,4.5
3D body "DG302-7.5-02P.stp": height 13.5, standoff -4.1, extent -12.085,-4.5 3.785,4.5
3D body "DG302-7.5-02P.stp": height 13.5, standoff -4.1, extent -27.085,-4.5 -11.215,4.5

## DG302_7P5_08 [mm] "Terminal B screw, Pitch 7.5mm, H 13.5mm"
height 13.5
pads (8):
  rect 2x2 / inner rect 2x2 / far side rect 2.4x3 hole 1.4: 1(-26.25,0)
  round 2 / inner round 2 / far side oval 2.4x3 hole 1.4: 2(-18.75,0) 3(-11.25,0) 4(-3.75,0) 5(3.75,0) 6(11.25,0) 7(18.75,0) 8(26.25,0)
Top Overlay:
  circle w0.2: c26.25,0 r1.7
  circle w0.2: c18.75,0 r1.7
  circle w0.2: c11.25,0 r1.7
  circle w0.2: c3.75,0 r1.7
  circle w0.2: c-3.75,0 r1.7
  circle w0.2: c-11.25,0 r1.7
  circle w0.2: c-18.75,0 r1.7
  circle w0.2: c-26.25,0 r1.7
  region: 27.85,4.7 24.65,4.7 24.65,3.2 27.85,3.2
  region: 20.35,4.7 17.15,4.7 17.15,3.2 20.35,3.2
  region: 12.85,4.7 9.65,4.7 9.65,3.2 12.85,3.2
  region: 5.35,4.7 2.15,4.7 2.15,3.2 5.35,3.2
  region: -2.15,4.7 -5.35,4.7 -5.35,3.2 -2.15,3.2
  region: -9.65,4.7 -12.85,4.7 -12.85,3.2 -9.65,3.2
  region: -17.15,4.7 -20.35,4.7 -20.35,3.2 -17.15,3.2
  region: -24.65,4.7 -27.85,4.7 -27.85,3.2 -24.65,3.2
  lines w0.2: -30.087,-3.125 -30.9,-3.541 -30.9,-1.839 -30.087,-2.255 ; -30,1.9 30.1,1.9 ; -30,3.2 30.1,3.2 ; -27.594,-0.919 -27.311,-0.636 ; -27.169,-1.344 -26.886,-1.061 ; -25.614,1.061 -25.331,1.343 ; -25.189,0.636 -24.907,0.919 ; -20.094,-0.919 -19.811,-0.636 ; -19.669,-1.344 -19.386,-1.061 ; -18.114,1.061 -17.831,1.343 ; -17.689,0.636 -17.407,0.919 ; -12.594,-0.919 -12.311,-0.636 ; -12.169,-1.344 -11.886,-1.061 ; -10.614,1.061 -10.331,1.343 ; -10.189,0.636 -9.907,0.919 ; -5.094,-0.919 -4.811,-0.636 ; -4.669,-1.344 -4.386,-1.061 ; -3.114,1.061 -2.831,1.343 ; -2.689,0.636 -2.407,0.919 ; 2.406,-0.919 2.689,-0.636 ; 2.831,-1.344 3.114,-1.061 ; 4.386,1.061 4.669,1.343 ; 4.811,0.636 5.093,0.919 ; 9.906,-0.919 10.189,-0.636 ; 10.331,-1.344 10.614,-1.061 ; 11.886,1.061 12.169,1.343 ; 12.311,0.636 12.593,0.919 ; 17.406,-0.919 17.689,-0.636 ; 17.831,-1.344 18.114,-1.061 ; 19.386,1.061 19.669,1.343 ; 19.811,0.636 20.093,0.919 ; 24.906,-0.919 25.189,-0.636 ; 25.331,-1.344 25.614,-1.061 ; 26.886,1.061 27.169,1.343 ; 27.311,0.636 27.593,0.919 ; -30.1,-4.6 -30.1,4.6 30.1,4.6 30.1,-4.6 29,-4.6 29,-4.1 23,-4.1 23,-4.6 22,-4.6 22,-4.1 15.5,-4.1 15.5,-4.6 14.5,-4.6 14.5,-4.1 8,-4.1 8,-4.6 7,-4.6 7,-4.1 0.5,-4.1 0.5,-4.6 -0.5,-4.6 -0.5,-4.1 -7,-4.1 -7,-4.6 -8,-4.6 -8,-4.1 -14.5,-4.1 -14.5,-4.6 -15.5,-4.6 -15.5,-4.1 -22,-4.1 -22,-4.6 -23,-4.6 -23,-4.1 -29,-4.1 -29,-4.6 -30.1,-4.6
3D body "DG302-7.5-02P.stp": height 13.5, standoff -4.1, extent 14.165,-4.5 30.035,4.5
3D body "DG302-7.5-02P.stp": height 13.5, standoff -4.1, extent -0.835,-4.5 15.035,4.5
3D body "DG302-7.5-02P.stp": height 13.5, standoff -4.1, extent -15.835,-4.5 0.035,4.5
3D body "DG302-7.5-02P.stp": height 13.5, standoff -4.1, extent -30.835,-4.5 -14.965,4.5